# Altium schematic symbol library MSP IOboard.SCHLIB: 18 symbols
Pins are listed as number, name and electrical type; pins without a type are passive.

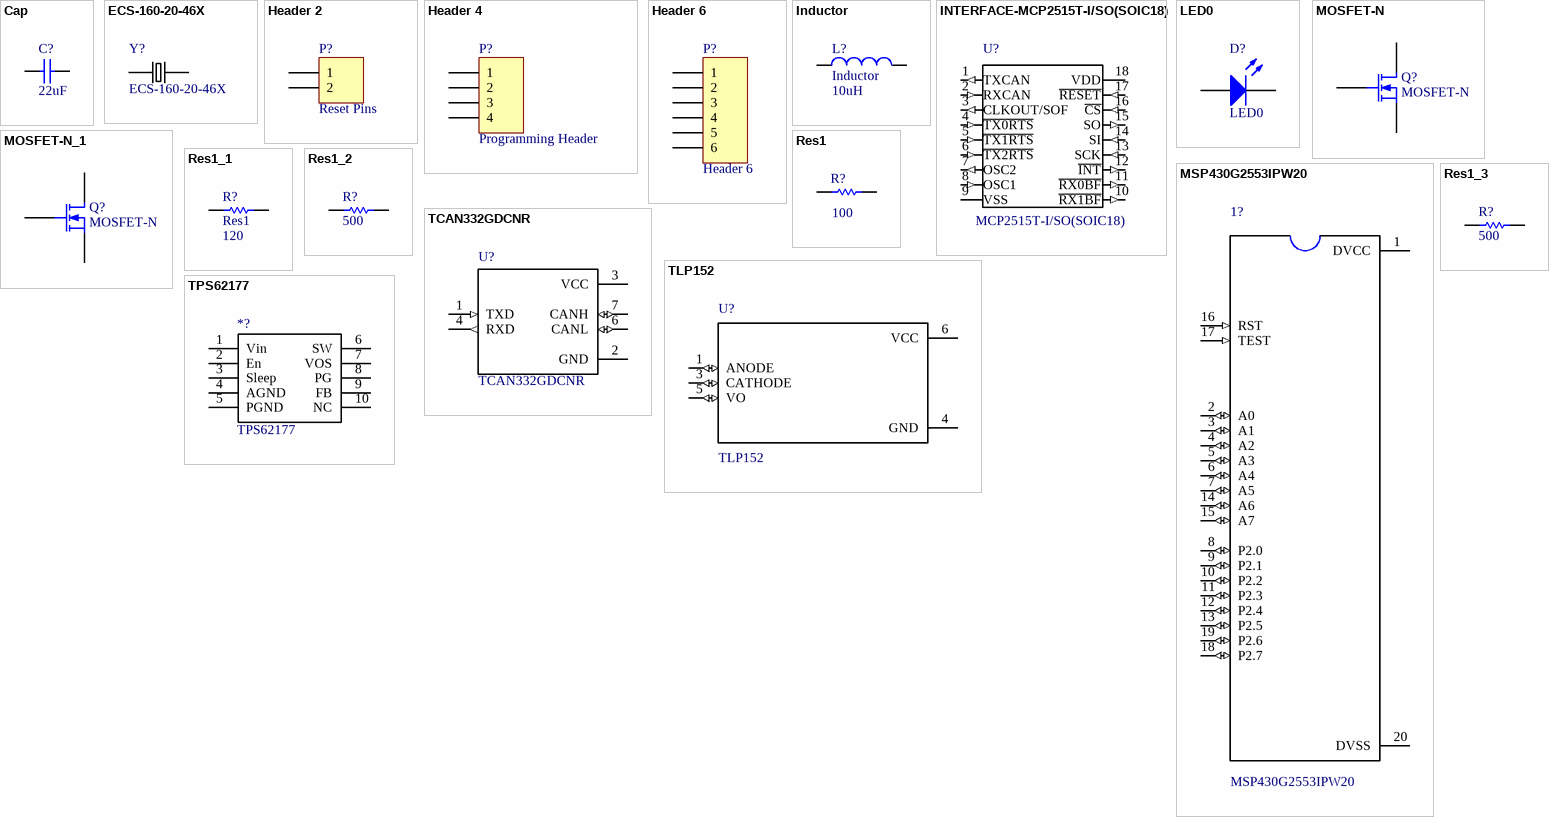
[diagram p0: symbols Cap to TPS62177]

## Cap
designator C?  value 22uF  (hidden comment: Cap)
Capacitor; Published: 8-Jun-2000; LatestRevisionDate: 17-Jul-2002; LatestRevisionNote: Re-released for DXP Platform.; PackageReference: RAD-0.3; Publisher: Altium Limited; PackageDescription: Radial Cap, Thru-Hole; 2 Leads; 0.3 in Pin Spacing
footprint RAD-0.3 (Radial Cap, Thru-Hole; 2 Leads; 0.3 in Pin Spacing)
simulation model CAP (Capacitor)
signal-integrity model Cap
footprint 0603
pins: 1, 2

## ECS-160-20-46X
designator Y?
Crystal 16MHz Â±30ppm _Tol_ Â±50ppm _Stability_ 20pF FUND 50Ohm; MF: ECS Inc.; Price: None; MP: ECS-160-20-46X; SnapEDA_Link: https://www.snapeda.com/parts/ECS-160-20-46X/ECS%20Inc./view-part/?ref=snap; Availability: Unavailable; Package: HC46/X ECS International; Value: *
footprint XTAL_ECS-160-20-46X
pins: 1, 2

## Header 2
designator P?, comment Reset Pins
Header, 2-Pin; LatestRevisionDate: 17-Jul-2002; LatestRevisionNote: Re-released for DXP Platform.; Publisher: Altium Limited
footprint HDR1X2 (Connector; Header; 2 Position)
signal-integrity model Connector
pins: 1, 2

## Header 4
designator P?, comment Programming Header
Header, 4-Pin; LatestRevisionDate: 17-Jul-2002; LatestRevisionNote: Re-released for DXP Platform.; Publisher: Altium Limited
footprint HDR1X4 (Connector; Header; 4 Position)
signal-integrity model Connector
pins: 1, 2, 3, 4

## Header 6
designator P?
Header, 6-Pin; LatestRevisionDate: 17-Jul-2002; LatestRevisionNote: Re-released for DXP Platform.; Publisher: Altium Limited
footprint HDR1X6 (Connector; Header; 6 Position)
signal-integrity model Connector
pins: 1, 2, 3, 4, 5, 6

## Inductor
designator L?  value 10uH
Code_IEC: 1005; Published: 8-Jun-2000; LatestRevisionDate: 29-May-2009; LatestRevisionNote: IPC-7351 Footprint Added.; PackageReference: 0402-A; Publisher: Altium Limited; PackageDescription: Chip Inductor; Code_JEITA: 0402
footprint 0402-A (Chip Inductor, Body 1.0x0.5mm, IPC High Density)
footprint INDC1608L (Chip Inductor, Body 1.6x0.8mm, IPC High Density)
footprint 2029 (Chip Inductor, Body 2.0x1.2mm, IPC High Density)
footprint 0603 (Chip Inductor, Body 0.6x0.3mm, IPC High Density)
footprint INDC3216 (Chip Inductor, Body 3.2x1.6mm, IPC High Density)
footprint INDC4532 (Chip Inductor, Body 4.5x3.2mm, IPC High Density)
simulation model INDUCTOR (Inductor)
signal-integrity model Inductor
footprint Model Name (Footprint not found)
footprint INDC2520X18N
pins: 1, 2

## INTERFACE-MCP2515T-I/SO(SOIC18)
designator U?, comment MCP2515T-I/SO(SOIC18)
MCP2515 Series 5.5 V 1 Mb/s Stand Alone SPI Interface CAN Controller- SOIC-18; MF: Microchip; SnapEDA_Link: https://www.snapeda.com/parts/MCP2515T-I/SO/Microchip/view-part/?ref=snap; MP: MCP2515T-I/SO; Package: SOIC-18 Microchip; Price: None; Availability: Unavailable; Value: *
footprint SOIC18-1.27-11.5X7.5MM
pins: 1 TXCAN (out), 2 RXCAN (in), 3 CLKOUT/SOF (out), 4 ~{TX0RTS} (in), 5 ~{TX1RTS} (in), 6 ~{TX2RTS} (in), 7 OSC2 (out), 8 OSC1 (in), 9 VSS (power), 10 ~{RX1BF} (out), 11 ~{RX0BF} (out), 12 ~{INT} (out), 13 SCK (in), 14 SI (in), 15 SO (out), 16 ~{CS} (in), 17 ~{RESET} (in), 18 VDD (power)

## LED0
designator D?
Typical INFRARED GaAs LED; Published: 8-Jun-2000; LatestRevisionDate: 08-Jul-2005; LatestRevisionNote: Mech Layer 1 removed.; PackageReference: LED-0; Publisher: Altium Limited; PackageDescription: LED; 2 Leads
footprint LED-0 (LED; 2 Leads)
simulation model LED0 (Diode)
footprint LEDC2012X70N_598-8120-107F(Primary)
pins: 1 A, 2 K

## MOSFET-N
designator Q?
N-Channel MOSFET; Published: 8-Jun-2000; LatestRevisionDate: 17-Jul-2002; LatestRevisionNote: Re-released for DXP Platform.; PackageVersion: 1995/1996; PackageReference: E3; Publisher: Altium Limited; PackageDescription: TO, Flat Index; 3 In-Line, Axial Leads; Body Dia. 4.6mm; Lead Dia. 0.5 mm (max)
footprint E3 (TO, Flat Index; 3 In-Line, Axial Leads; Body Dia. 4.6mm; Lead Dia. 0.5 mm (max))
simulation model NMOS (MOSFET-N)
footprint SOT95P230X110-3N
pins: 1 D, 2 G, 3 S

## MOSFET-N_1
designator Q?, comment MOSFET-N
N-Channel MOSFET; Published: 8-Jun-2000; LatestRevisionDate: 17-Jul-2002; LatestRevisionNote: Re-released for DXP Platform.; PackageVersion: 1995/1996; PackageReference: E3; Publisher: Altium Limited; PackageDescription: TO, Flat Index; 3 In-Line, Axial Leads; Body Dia. 4.6mm; Lead Dia. 0.5 mm (max)
footprint E3 (TO, Flat Index; 3 In-Line, Axial Leads; Body Dia. 4.6mm; Lead Dia. 0.5 mm (max))
simulation model NMOS (MOSFET-N)
footprint SOT95P230X110-3N
footprint SOT95P230X110-3N
pins: 1 D, 2 G, 3 S

## MSP430G2553IPW20
designator 1?
MSP430G2x53, MSP430G2x13 Mixed Signal Microcontroller 20-TSSOP -40 to 85; MF: Texas Instruments; MP: MSP430G2553IPW20; Price: None; Availability: Unavailable; Package: TSSOP-20 Texas Instruments; SnapEDA_Link: https://www.snapeda.com/parts/MSP430G2553IPW20/Texas%20Instruments/view-part/?ref=snap; Value: *
footprint TSSOP-20
pins: 1 DVCC (power), 2 A0 (io), 3 A1 (io), 4 A2 (io), 5 A3 (io), 6 A4 (io), 7 A5 (io), 8 P2.0 (io), 9 P2.1 (io), 10 P2.2 (io), 11 P2.3 (io), 12 P2.4 (io), 13 P2.5 (io), 14 A6 (io), 15 A7 (io), 16 RST (in), 17 TEST (in), 18 P2.7 (io), 19 P2.6 (io), 20 DVSS

## Res1
designator R?  value 100  (hidden comment: Res1)
Resistor; Published: 8-Jun-2000; LatestRevisionDate: 17-Jul-2002; LatestRevisionNote: Re-released for DXP Platform.; PackageReference: AXIAL-0.3; Publisher: Altium Limited; PackageDescription: Axial Device, Thru-Hole; 2 Leads; 0.3 in Pin Spacing
footprint AXIAL-0.3 (Axial Device, Thru-Hole; 2 Leads; 0.3 in Pin Spacing)
simulation model RESISTOR (Resistor)
signal-integrity model Res
footprint RESC2012X70
pins: 1, 2

## Res1_1
designator R?, comment Res1  value 120
Resistor; Published: 8-Jun-2000; LatestRevisionDate: 17-Jul-2002; LatestRevisionNote: Re-released for DXP Platform.; PackageReference: AXIAL-0.3; Publisher: Altium Limited; PackageDescription: Axial Device, Thru-Hole; 2 Leads; 0.3 in Pin Spacing
footprint AXIAL-0.3 (Axial Device, Thru-Hole; 2 Leads; 0.3 in Pin Spacing)
simulation model RESISTOR (Resistor)
signal-integrity model Res
pins: 1, 2

## Res1_2
designator R?, comment value 500  (hidden comment: Res1)
Resistor; Published: 8-Jun-2000; LatestRevisionDate: 17-Jul-2002; LatestRevisionNote: Re-released for DXP Platform.; PackageReference: AXIAL-0.3; Publisher: Altium Limited; PackageDescription: Axial Device, Thru-Hole; 2 Leads; 0.3 in Pin Spacing
footprint AXIAL-0.3 (Axial Device, Thru-Hole; 2 Leads; 0.3 in Pin Spacing)
simulation model RESISTOR (Resistor)
signal-integrity model Res
footprint RESC2012X70
footprint RESC2012X70
pins: 1, 2

## Res1_3
designator R?, comment value 500  (hidden comment: Res1)
Resistor; Published: 8-Jun-2000; LatestRevisionDate: 17-Jul-2002; LatestRevisionNote: Re-released for DXP Platform.; PackageReference: AXIAL-0.3; Publisher: Altium Limited; PackageDescription: Axial Device, Thru-Hole; 2 Leads; 0.3 in Pin Spacing
footprint AXIAL-0.3 (Axial Device, Thru-Hole; 2 Leads; 0.3 in Pin Spacing)
simulation model RESISTOR (Resistor)
signal-integrity model Res
footprint LEDC2012X70N_598-8120-107F(Primary)
footprint RESC2012X70
pins: 1, 2

## TCAN332GDCNR
designator U?
3.3-V CAN Transceivers with CAN FD _Flexible Data Rate_ 8-SOT-23 -40 to 125; MF: Texas Instruments; MP: TCAN332GDCNR; Price: None; Availability: Unavailable; Package: SOT-23 Texas Instruments; SnapEDA_Link: https://www.snapeda.com/parts/TCAN332GDCNR/Texas%20Instruments/view-part/?ref=snap; Value: *
footprint SOT65P280X145-8N
pins: 1 TXD (in), 2 GND (power), 3 VCC (power), 4 RXD (out), 6 CANL (io), 7 CANH (io)

## TLP152
designator U?
Optocoupler, Gate Driver, 3.75kv, Smdip; MF: Toshiba; MP: TLP152; Price: None; Availability: Unavailable; Package: SOIC-5 Toshiba; SnapEDA_Link: https://www.snapeda.com/parts/TLP152/Toshiba/view-part/?ref=snap; Value: *
footprint SOIC127P375X700X220-5N
pins: 1 ANODE (io), 3 CATHODE (io), 4 GND (power), 5 VO (io), 6 VCC (power)

## TPS62177
designator *?
footprint SON80P400X400X80-10N
pins: 1 Vin, 2 En, 3 Sleep, 4 AGND, 5 PGND, 6 SW, 7 VOS, 8 PG, 9 FB, 10 NC